# EAGLE library part TC2030-IDC (library otto)
Tag-Connect In Circuit Programming & Debug Cable 6 Pin http://www.tag-connect.com
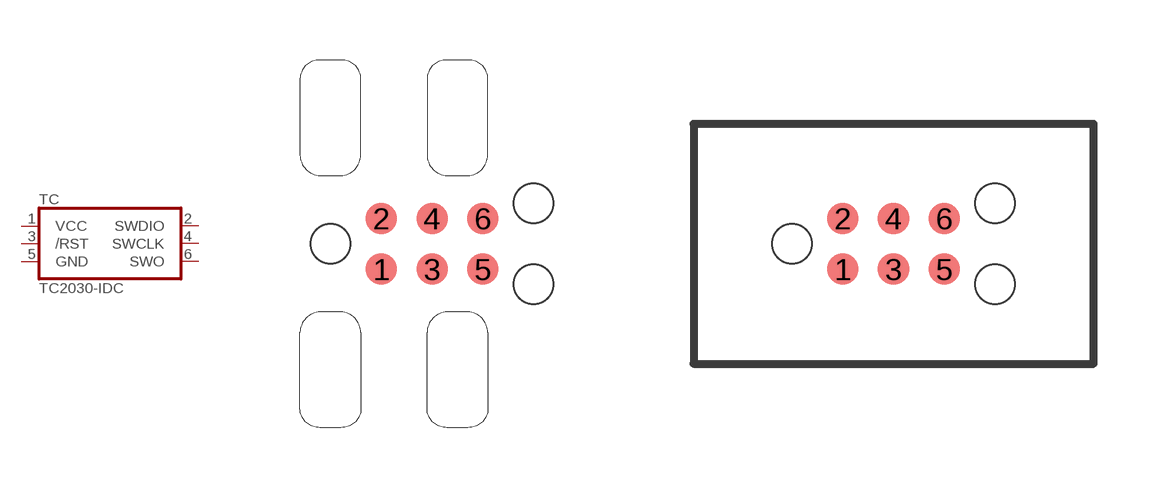
[diagram p2: symbol with the pads of TC2030; footprints TC2030, TC2030-NL]

Designator prefix TC

## TC2030-IDC-IDC  [TC2030]
1  VCC  pas
2  SWDIO  pas
3  /RST  pas
4  SWCLK  pas
5  GND  pas
6  SWO  pas

## TC2030-IDC-NL (DESCRIPTION: Cable Adapter 6 Pos; MFG: Tag-Connect; MPN: TC2030-IDC)  [TC2030-NL]
Pads as for TC2030

## Footprint TC2030 (pad centres in mm)
smd 0.787 x 0.787: 1 -1.27,-0.635; 2 -1.27,0.635; 3 0,-0.635; 4 0,0.635; 5 1.27,-0.635; 6 1.27,0.635
hole 0.991 at -2.54,0
hole 0.991 at 2.54,1.016
hole 0.991 at 2.54,-1.016

## Footprint TC2030-NL (pad centres in mm)
smd 0.787 x 0.787: 1 -1.27,-0.635; 2 -1.27,0.635; 3 0,-0.635; 4 0,0.635; 5 1.27,-0.635; 6 1.27,0.635
hole 0.991 at -2.54,0
hole 0.991 at 2.54,1.016
hole 0.991 at 2.54,-1.016